# Altium schematic symbol library LTE-302.SchLib: 1 symbol
Pins are listed as number, name and electrical type; pins without a type are passive.

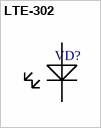
[diagram p0: symbol LTE-302]

## LTE-302
designator VD?
pins: 1, 2